# Altium schematic symbol library Clock.SchLib: 1 symbol
Pins are listed as number, name and electrical type; pins without a type are passive.

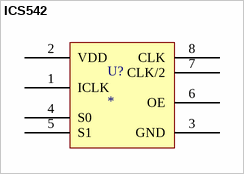
[diagram p0: symbol ICS542]

## ICS542
designator U?
CLOCK DIVIDER  156 MHz at 3.3 V,  divide by / 2, 4, 6, 8, 12, or 16
footprint SOIC-8N-ICS542 (SOIC, 8-Leads, Body 4.90x3.90mm, Pitch 1.27mm, IPC Medium Density)
pins: 1 ICLK, 2 VDD, 3 GND, 4 S0, 5 S1, 6 OE, 7 CLK/2, 8 CLK